# Altium footprint library 贴片电容.PcbLib: 22 footprints (part 1 of 2)
Each footprint in its own frame and in the unit in brackets; x right, y up, seen from the top. Pads: shape width x height; smd on the part's side, far side on the other; paste and mask are expansions set on the pad; w line width, h text height; cw(c..) or ccw(c..) is an arc to the next point about the centre after c.
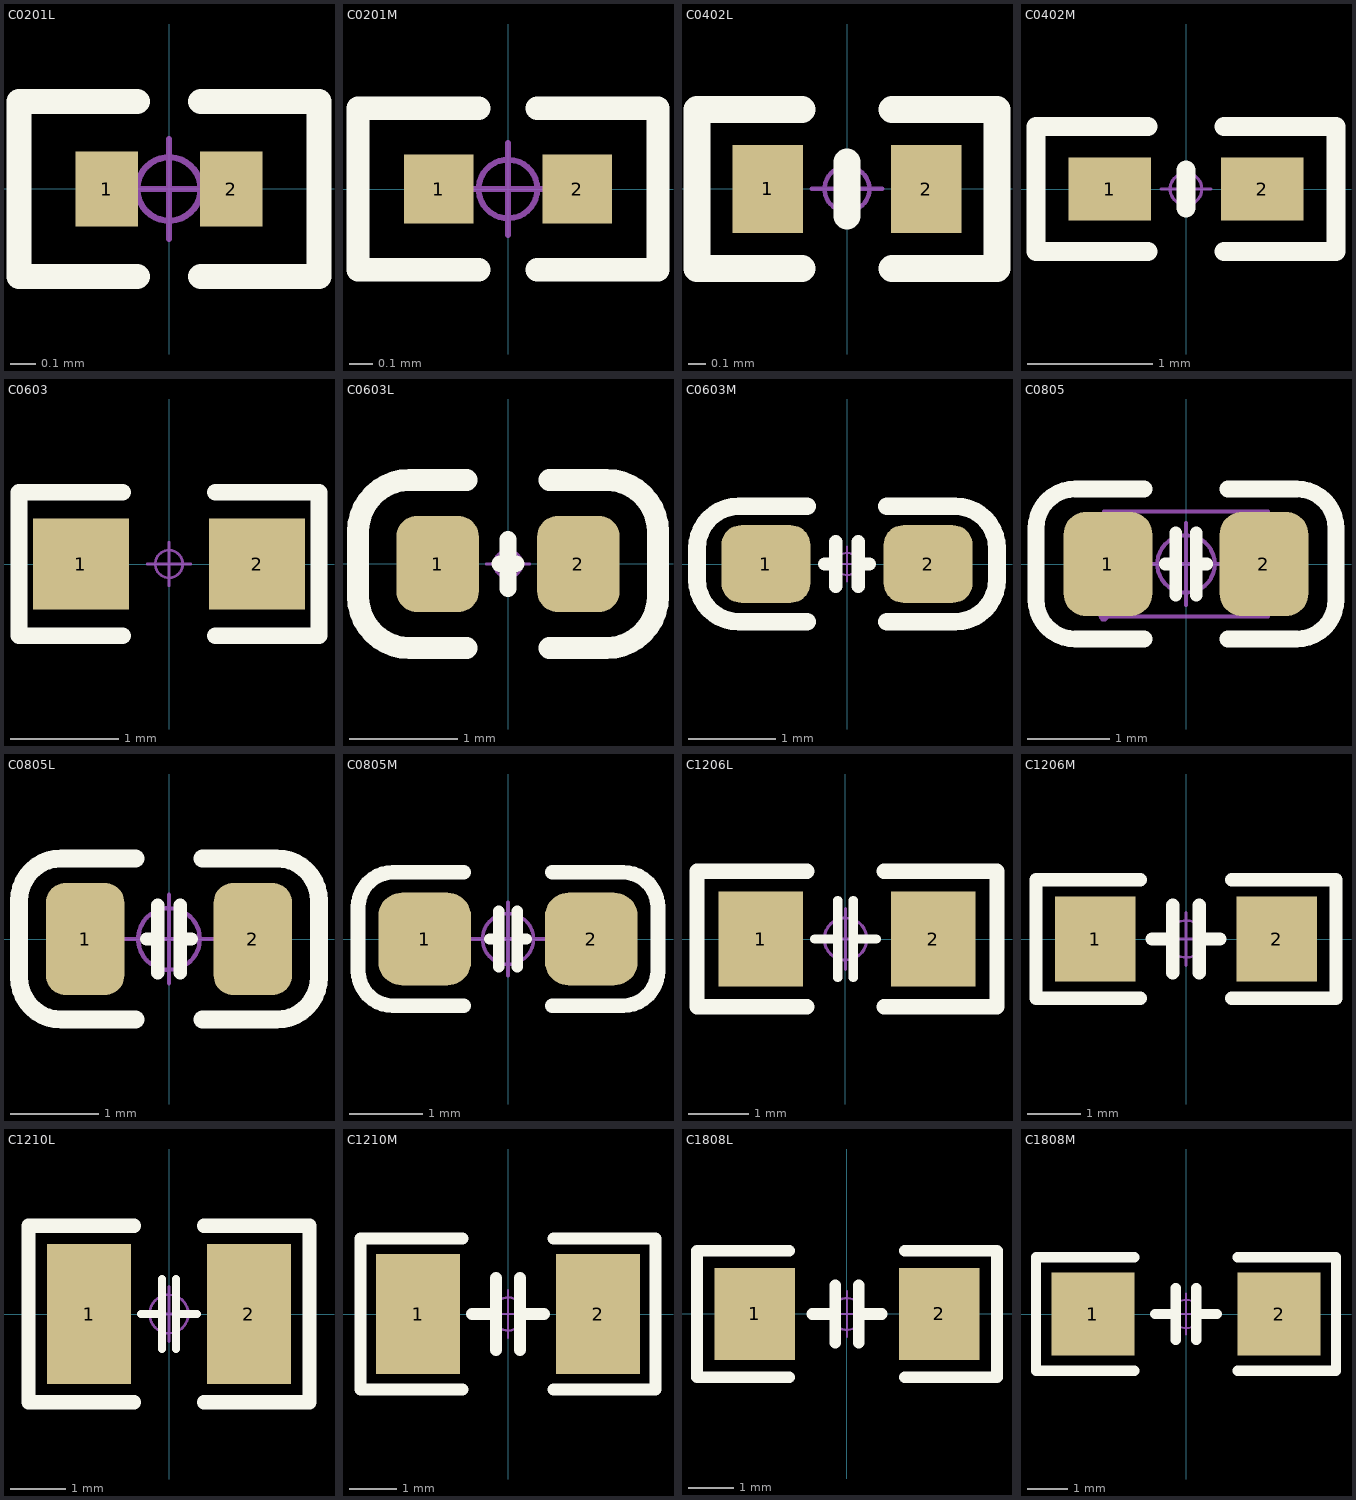
[diagram p0: the footprints below, top view; thin cyan lines are the x and y axes]

## C0201L [mm] "无极性贴片电容"
pads (2):
  rect 0.25x0.3 smd: 1(-0.25,0) 2(0.25,0)
Top Overlay:
  lines w0.102: -0.127,-0.35 -0.6,-0.35 -0.6,0.35 -0.127,0.35 ; 0.127,-0.35 0.6,-0.35 0.6,0.35 0.127,0.35
Mechanical 15:
  circle w0.025: c0,0 r0.127
  lines w0.025: -0.2,0 0.2,0 ; 0,-0.2 0,0.2
3D body "C 0201.STEP": height 0.31, standoff -0.01, extent -0.3,-0.16 0.3,0.16

## C0201M [mm] "无极性贴片电容"
pads (2):
  rect 0.3x0.3 smd: 1(-0.3,0) 2(0.3,0)
Top Overlay:
  lines w0.102: -0.127,-0.35 -0.65,-0.35 -0.65,0.35 -0.127,0.35 ; 0.127,-0.35 0.65,-0.35 0.65,0.35 0.127,0.35
Mechanical 15:
  circle w0.025: c0,0 r0.127
  lines w0.025: -0.2,0 0.2,0 ; 0,-0.2 0,0.2
3D body "C 0201.STEP": height 0.31, standoff -0.01, extent -0.3,-0.16 0.3,0.16

## C0402L [mm] "无极性贴片电容"
pads (2):
  rect 0.4x0.5 smd: 1(-0.45,0) 2(0.45,0)
Top Overlay:
  lines w0.152: -0.254,-0.45 -0.85,-0.45 ; -0.254,0.45 -0.85,0.45 -0.85,-0.45 ; 0,-0.152 0,0.152 ; 0.254,-0.45 0.85,-0.45 0.85,0.45 0.254,0.45 ; -0.85,-0.45 -0.85,-0.45
Mechanical 15:
  circle w0.025: c0,0 r0.127
  lines w0.025: -0.2,0 0.2,0 ; 0,-0.2 0,0.2
3D body "C 0402.STEP": height 0.53, standoff 0.01, extent -0.5,-0.26 0.5,0.26

## C0402M [mil] "无极性贴片电容"
pads (2):
  rect 26x20 smd: 1(-24,0) 2(24,0)
Top Overlay:
  lines w6: -12,-19.68 -47.24,-19.68 -47.24,19.68 -12,19.68 ; 0,-6 0,6 ; 12,-19.68 47.24,-19.68 47.24,19.68 12,19.68
Mechanical 15:
  circle w1: c0,0 r5
  lines w1: -7.87,0 7.87,0 ; 0,-7.87 0,7.87
3D body "C 0402.STEP": height 20.68, standoff 0.21, extent -19.69,-10.24 19.69,10.24

## C0603 [mil] "无极性贴片电容"
pads (2):
  rect 35x33 smd: 1(-32,0) 2(32,0)
Top Overlay:
  lines w6: -16.78,-26.01 -54.53,-26.01 -54.53,26.01 -16.78,26.01 ; 16.78,-26.01 54.53,-26.01 54.53,26.01 16.78,26.01
Mechanical 15:
  circle w1: c0,0 r5
  lines w1: -7.87,0 7.87,0 ; 0,-7.87 0,7.87
3D body "C 0603.STEP": height 31.89, standoff -0.39, extent -31.5,-16.14 31.5,16.14

## C0603L [mil] "无极性贴片电容"
pads (2):
  rrect50% 30x35 smd: 1(-25.59,0) 2(25.59,0)
Top Overlay:
  lines w6: -3,0 0,0 3,0 ; 0,-9 0,9
  lines w8: -15,-30.59 -35.6,-30.59 cw(c-35.6,-11.69) -54.5,-11.69 -54.5,11.68 cw(c-35.6,11.68) -35.6,30.59 -15,30.59 ; 15,-30.59 35.6,-30.59 ccw(c35.6,-11.69) 54.5,-11.69 54.5,11.68 ccw(c35.6,11.68) 35.6,30.59 15,30.59
Mechanical 15:
  circle w1: c0,0 r5
  lines w1: -7.87,0 7.87,0 ; 0,-7.87 0,7.87
3D body "C 0603.STEP": height 31.89, standoff -0.39, extent -31.5,-16.14 31.5,16.14

## C0603M [mil] "无极性贴片电容"
pads (2):
  rrect50% 40x35 smd: 1(-36.5,0) 2(36.5,0)
Top Overlay:
  lines w6: -10,0 -5,0 ; -5,-10 -5,10 ; 5,-10 5,10 ; 5,0 10,0
  lines w8: -18,-26 -48.6,-26 cw(c-48.6,-7.1) -67.5,-7.1 -67.5,7.1 cw(c-48.6,7.1) -48.6,26 -18,26 ; 18,-26 48.6,-26 ccw(c48.6,-7.1) 67.5,-7.1 67.5,7.1 ccw(c48.6,7.1) 48.6,26 18,26
Mechanical 15:
  circle w1: c0,0 r5
  lines w1: -7.87,0 7.87,0 ; 0,-7.87 0,7.87
3D body "C 0603.STEP": height 31.89, standoff -0.39, extent -31.5,-16.14 31.5,16.14

## C0805 [mil] "无极性贴片电容"
height 19.68
pads (2):
  rrect50% 42.5x50 smd: 1(-37.4,0) 2(37.4,0)
Top Overlay:
  lines w6: -10,0 -5,0 ; -5,-15 -5,15 ; 5,-15 5,15 ; 5,0 10,0
  lines w8: -20,-36 -53.03,-36 cw(c-53.03,-17.09) -71.93,-17.09 -71.93,17.09 cw(c-53.03,17.09) -53.03,36 -20,36 ; 20,-36 53.03,-36 ccw(c53.03,-17.09) 71.93,-17.09 71.93,17.09 ccw(c53.03,17.09) 53.03,36 20,36
Mechanical 15:
  circle w1.97: c0,0 r13.78
  circle w1.97: c0,0 r13.78
  region: -39.37,-25.1 -39.37,25.1 -23.62,25.1 -23.62,-25.1
  region: 39.37,-25.1 39.37,25.1 23.62,25.1 23.62,-25.1
  region: -37.01,-25.1 -37.05,-24.15 -38.42,-22.85 -40.31,-22.85 -41.68,-24.16 -41.73,-25.1 -41.68,-26.05 -40.31,-27.35 -38.42,-27.35 -37.05,-26.05
  lines w1.97: -19.68,0 19.68,0 -19.68,0 ; 0,-19.68 0,19.68 0,-19.68
  lines w2: -39.37,-25.1 -39.37,25.1 39.37,25.1 39.37,-25.1 -39.37,-25.1
3D body "C 0805.STEP": height 20.08, standoff -0.39, extent -39.37,-24.02 39.37,24.02

## C0805L [mil] "无极性贴片电容"
height 19.68
pads (2):
  rrect50% 35x50 smd: 1(-37.4,0) 2(37.4,0)
Top Overlay:
  lines w6: -10,0 -5,0 ; -5,-15 -5,15 ; 5,-15 5,15 ; 5,0 10,0
  lines w8: -15,-36 -48.03,-36 cw(c-48.03,-17.09) -66.93,-17.09 -66.93,17.09 cw(c-48.03,17.09) -48.03,36 -15,36 ; 15,-36 48.03,-36 ccw(c48.03,-17.09) 66.93,-17.09 66.93,17.09 ccw(c48.03,17.09) 48.03,36 15,36
Mechanical 15:
  circle w1.97: c0,0 r13.78
  circle w1.97: c0,0 r13.78
  lines w1.97: -19.68,0 19.68,0 -19.68,0 ; 0,-19.68 0,19.68 0,-19.68
3D body "C 0805.STEP": height 20.08, standoff -0.39, extent -39.37,-24.02 39.37,24.02

## C0805M [mil] "无极性贴片电容"
height 19.68
pads (2):
  rrect50% 50x50 smd: 1(-45,0) 2(45,0)
Top Overlay:
  lines w6: -10,0 -5,0 ; -5,-15 -5,15 ; 5,-15 5,15 ; 5,0 10,0
  lines w8: -81,-17.03 -81,17.03 ; -80.93,-17.1 ccw(c-62.03,-17.1) -62.03,-36 -24,-36 ; -80.93,17.1 cw(c-62.03,17.1) -62.03,36 -24,36 ; 24,-36 62.03,-36 ccw(c62.03,-17.1) 80.93,-17.1 ; 24,36 62.03,36 cw(c62.03,17.1) 80.93,17.1 ; 81,-17.03 81,17.03
Mechanical 15:
  circle w1.97: c0,0 r13.78
  lines w1.97: -19.68,0 19.68,0 ; 0,-19.68 0,19.68
3D body "C 0805.STEP": height 20.08, standoff -0.39, extent -39.37,-24.02 39.37,24.02

## C1206L [mil] "无极性贴片电容"
pads (2):
  rect 55x62 smd: 1(-55.12,0) 2(57.09,0)
Top Overlay:
  lines w6: -20,0 -5,0 ; -5,-25 -5,25 ; 5,-25 5,25 ; 5,0 20,0
  lines w10: -25,-44 -96.46,-44 -96.46,44 -25,44 ; 25,-44 96.46,-44 ; 25,44 96.46,44 ; 98.43,-44 98.43,44
Mechanical 15:
  circle w1.97: c0,0 r13.78
  lines w1.97: -19.68,0 19.68,0 ; 0,-19.68 0,19.68
3D body "C 1206.STEP": height 47.64, standoff -0.39, extent -62.99,-31.89 62.99,31.89

## C1206M [mil] "无极性贴片电容"
pads (2):
  rect 60x62.99 smd: 1(-67.5,0) 2(67.5,0)
Top Overlay:
  lines w10: -34,-44 -111.5,-44 -111.5,44 -34,44 ; -25,0 -10,0 ; -10,-25 -10,25 ; 10,-25 10,25 ; 10,0 25,0 ; 34,-44 111.5,-44 111.5,44 34,44
Mechanical 15:
  circle w1.97: c0,0 r13.78
  lines w1.97: -19.68,0 19.68,0 ; 0,-19.68 0,19.68
3D body "C 1206.STEP": height 47.64, standoff -0.39, extent -62.99,-31.89 62.99,31.89

## C1210L [mil] "无极性贴片电容"
pads (2):
  rect 60x100 smd: 1(-57.09,0) 2(57.09,0)
Top Overlay:
  lines w6: -20,0 -5,0 ; -5,-25 -5,25 ; 5,-25 5,25 ; 5,0 20,0
  lines w10: -25,-63 -100.39,-63 -100.39,63 -25,63 ; 25,-63 100.39,-63 100.39,63 25,63
Mechanical 15:
  circle w1.97: c0,0 r13.78
  lines w1.97: -19.68,0 19.68,0 ; 0,-19.68 0,19.68
3D body "C 1210.STEP": height 60.43, standoff 0.2, extent -62.99,-50.59 62.99,50.59

## C1210M [mil] "无极性贴片电容"
pads (2):
  rect 70x100 smd: 1(-75,0) 2(75,0)
Top Overlay:
  lines w10: -38,-63 -123,-63 -123,63 -38,63 ; -30,0 -10,0 ; -10,-30 -10,30 ; 10,-30 10,30 ; 10,0 30,0 ; 38,-63 123,-63 123,63 38,63
Mechanical 15:
  circle w1.97: c0,0 r13.78
  lines w1.97: -19.68,0 19.68,0 ; 0,-19.68 0,19.68
3D body "C 1210.STEP": height 60.43, standoff 0.2, extent -62.99,-50.59 62.99,50.59

## C1808L [mil] "无极性贴片电容"
pads (2):
  rect 70x80 smd: 1(-80,0) 2(80,0)
Top Overlay:
  lines w10: -50,-55 -130,-55 -130,55 -50,55 ; -30,0 -10,0 ; -10,-25 -10,25 ; 10,-25 10,25 ; 10,0 30,0 ; 50,-55 130,-55 130,55 50,55
Mechanical 15:
  circle w1.97: c0,0 r13.78
  lines w1.97: -19.68,0 19.68,0 ; 0,-19.68 0,19.68
3D body "C 1808.STEP": height 59.45, standoff -0.39, extent -90.55,-39.76 90.55,39.76

## C1808M [mil] "无极性贴片电容"
pads (2):
  rect 80x80 smd: 1(-90,0) 2(90,0)
Top Overlay:
  lines w10: -50,-55 -145,-55 -145,55 -50,55 ; -30,0 -10,0 ; -10,-25 -10,25 ; 10,-25 10,25 ; 10,0 30,0 ; 50,-55 145,-55 145,55 50,55
Mechanical 15:
  circle w1.97: c0,0 r13.78
  lines w1.97: -19.68,0 19.68,0 ; 0,-19.68 0,19.68
3D body "C 1808.STEP": height 59.45, standoff -0.39, extent -90.55,-39.76 90.55,39.76